# EAGLE library part HCPL2602 (library optocoupler_sendec)
HEWLETT PACKARD OPTO COUPLER
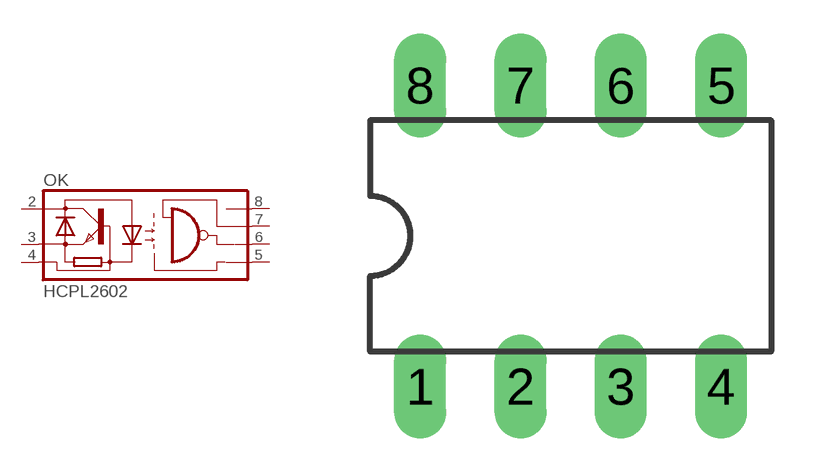
[diagram p25: symbol with the pads of DIL08; footprint DIL08]

Designator prefix OK

## HCPL2602  [DIL08]
2  +  pas
3  -  pas
4  B  pas
5  GND  pas
6  OUT  pas
7  EN  pas
8  VCC  pas

## Footprint DIL08 (pad centres in mm)
Dual In Line Package
drill 0.813 long: 1 -3.81,-3.81; 2 -1.27,-3.81; 3 1.27,-3.81; 4 3.81,-3.81; 5 3.81,3.81; 6 1.27,3.81; 7 -1.27,3.81; 8 -3.81,3.81